# Altium footprint library 可控硅.PcbLib: 5 footprints
Each footprint in its own frame and in the unit in brackets; x right, y up, seen from the top. Pads: shape width x height; smd on the part's side, far side on the other; paste and mask are expansions set on the pad; w line width, h text height; cw(c..) or ccw(c..) is an arc to the next point about the centre after c.
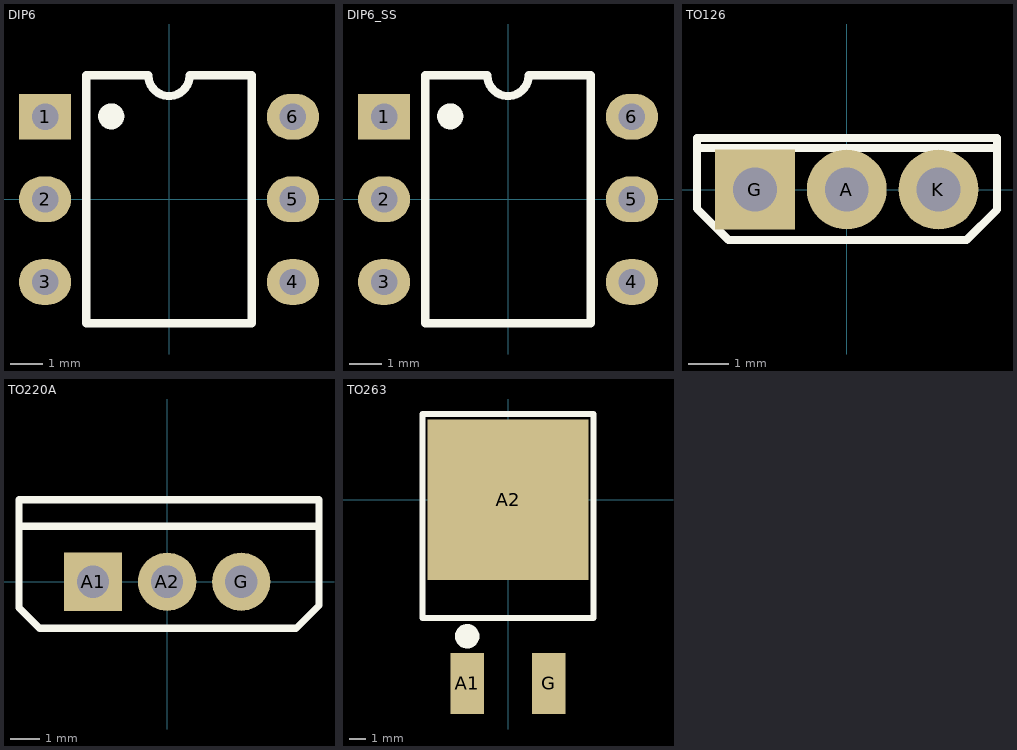
[diagram p0: the footprints below, top view; thin cyan lines are the x and y axes]

## DIP6 [mm]
pads (6):
  rect 1.6x1.4 hole 0.813: 1(-3.81,2.54)
  oval 1.6x1.4 hole 0.813: 2(-3.81,0) 3(-3.81,-2.54) 4(3.81,-2.54) 5(3.81,0) 6(3.81,2.54)
Top Overlay:
  circle w0.5: c-1.775,2.55 r0.15
  lines w0.254: -2.54,-3.81 2.54,-3.81 2.54,3.81 0.635,3.81 cw(c0,3.81) -0.635,3.81 -2.54,3.81 -2.54,-3.81
3D body "DIP6.STEP": height 4.3, standoff -3, extent -3.935,-3.564 3.935,3.556

## DIP6_SS [mm] "DIP6-SMD Socket"
pads (6):
  rect 1.6x1.4 hole 0.813: 1(-3.81,2.54)
  oval 1.6x1.4 hole 0.813: 2(-3.81,0) 3(-3.81,-2.54) 4(3.81,-2.54) 5(3.81,0) 6(3.81,2.54)
Top Overlay:
  circle w0.5: c-1.775,2.55 r0.15
  lines w0.254: -2.54,-3.81 -2.54,3.81 -0.635,3.81 ccw(c0,3.81) 0.635,3.81 2.54,3.81 2.54,-3.81 -2.54,-3.81
3D body "DIP6.STEP": height 5, standoff -3, extent -5.08,-3.81 5.08,3.81
3D body "DIP6.STEP": height 7.3, standoff 0, extent -3.935,-3.691 3.935,3.429

## TO126 [mm]
pads (3):
  round 2 hole 1.1: A(0,0) K(2.3,0)
  rect 2x2 hole 1.1: G(-2.3,0)
Top Overlay:
  lines w0.2: -3.734,1.041 3.734,1.041 ; -3.752,-0.48 -3.752,1.295 3.767,1.295 3.767,-0.506 3.005,-1.268 -2.964,-1.268 -3.752,-0.48
3D body "23.STEP": height 15, standoff -4, extent -4,-1.27 4,1.53

## TO220A [mm]
pads (3):
  rect 2x2 hole 1.1: A1(-2.54,0)
  round 2 hole 1.1: A2(0,0) G(2.54,0)
Top Overlay:
  lines w0.254: -4.928,1.905 5.131,1.905 ; -5.08,-0.889 -4.369,-1.6 4.42,-1.6 5.207,-0.813 5.207,2.819 -5.08,2.819 -5.08,-0.889
3D body "4.STEP": height 18.5, standoff -4, extent -5.08,-1.453 5.22,2.977

## TO263 [mm]
pads (3):
  rect 2.1x3.8 smd: A1(-2.54,-11.45) G(2.54,-11.45)
  rect 10x10 smd: A2(0,0)
Top Overlay:
  circle w0.762: c-2.54,-8.509 r0.381
  lines w0.381: -5.334,-7.366 -5.334,-5.588 -5.334,5.334 5.334,5.334 5.334,-5.588 5.334,-7.366 -5.334,-7.366
3D body "1.STEP": height 4.5, standoff 0, extent -4.92,-11.049 5.08,3.881